# Altium schematic symbol library components.SchLib: 11 symbols
Pins are listed as number, name and electrical type; pins without a type are passive.

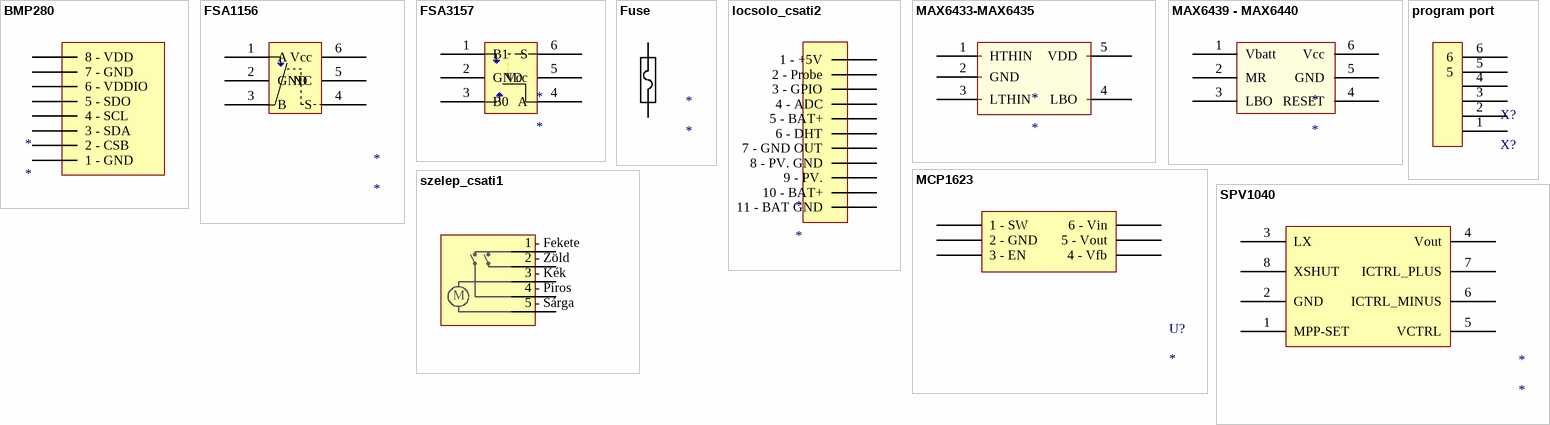
[diagram p0: symbols BMP280 to szelep_csati1]

## BMP280
designator *
footprint BMP280
pins: 1 1 - GND, 2 2 - CSB, 3 3 - SDA, 4 4 - SCL, 5 5 - SDO, 6 6 - VDDIO, 7 7 - GND, 8 8 - VDD

## FSA1156
designator *
footprint SC70-6 (SC70-6; SOT-363)
pins: 1 A, 2 GND, 3 B, 4 S, 5 NC, 6 Vcc

## FSA3157
designator *
footprint SC70-6 (Footprint not found)
pins: 1 B1, 2 GND, 3 B0, 4 A, 5 Vcc, 6 S

## Fuse
designator *
footprint Fuse_1206
pins: 1, 2

## locsolo_csati2
designator *
footprint locsolo_csati2
pins: 1 1 - +5V, 2 2 - Probe, 3 3 - GPIO, 4 4 - ADC, 5 5 - BAT+, 6 6 - DHT, 7 7 - GND OUT, 8 8 - PV. GND, 9 9 - PV., 10 10 - BAT+, 11 11 - BAT GND

## MAX6433-MAX6435
designator *
footprint SOT23-5 (SOT-23/SC-74A; 5 Leads; Body 3 x 3 mm, inc. leads (LxW max))
pins: 1 HTHIN, 2 GND, 3 LTHIN, 4 LBO, 5 VDD

## MAX6439 - MAX6440
designator *
footprint SOT23-6 (Footprint not found)
pins: 1 Vbatt, 2 MR, 3 LBO, 4 RESET, 5 GND, 6 Vcc

## MCP1623
designator U?
pins: 1 1 - SW, 2 2 - GND, 3 3 - EN, 4 4 - Vfb, 5 5 - Vout, 6 6 - Vin

## program port
designator X?, comment X?
footprint program port
pins: 1, 2, 3 2, 4, 5, 6

## SPV1040
designator *
footprint SPV1040
pins: 1 MPP-SET, 2 GND, 3 LX, 4 Vout, 5 VCTRL, 6 ICTRL_MINUS, 7 ICTRL_PLUS, 8 XSHUT

## szelep_csati1
designator *
footprint Szelep_csati
pins: 1 - Fekete 1, 2 - Zöld 2, 3 - Kék 3, 4 - Piros 4, 5 - Sárga 5
text: M